# EAGLE library part 74*155 (library 74xx-eu)
Dual 2-line to 4-line data DECODER/DEMULTIPLEXER
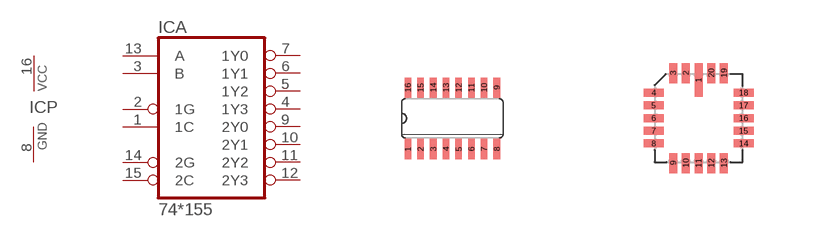
[diagram p105: symbol with the pads of SO16; footprints SO16, LCC20]

Designator prefix IC; gates A=74155 P=PWRN

## 74155D, 74HC155D, 74LS155D  [SO16]
1  A:1C  in
2  A:1G  in
3  A:B  in
4  A:1Y3  out
5  A:1Y2  out
6  A:1Y1  out
7  A:1Y0  out
8  P:GND  pwr
9  A:2Y0  out
10  A:2Y1  out
11  A:2Y2  out
12  A:2Y3  out
13  A:A  in
14  A:2G  in
15  A:2C  in
16  P:VCC  pwr

## 74155FK, 74HC155FK, 74LS155FK  [LCC20]
2  A:1C  in
3  A:1G  in
4  A:B  in
5  A:1Y3  out
7  A:1Y2  out
8  A:1Y1  out
9  A:1Y0  out
10  P:GND  pwr
12  A:2Y0  out
13  A:2Y1  out
14  A:2Y2  out
15  A:2Y3  out
17  A:A  in
18  A:2G  in
19  A:2C  in
20  P:VCC  pwr

## 74155N, 74HC155N, 74LS155N  [DIL16]
Pads as for SO16

## Footprint SO16 (pad centres in mm)
Small Outline package 150 mil
smd 0.165 x 0.508: 1 -1.111,-0.768; 2 -0.794,-0.768; 3 -0.476,-0.768; 4 -0.159,-0.768; 5 0.159,-0.768; 6 0.476,-0.768; 7 0.794,-0.768; 8 1.111,-0.768; 9 1.111,0.768; 10 0.794,0.768; 11 0.476,0.768; 12 0.159,0.768; 13 -0.159,0.768; 14 -0.476,0.768; 15 -0.794,0.768; 16 -1.111,0.768

## Footprint LCC20 (pad centres in mm)
Leadless Chip Carrier Ceramic Package
smd 0.2 x 0.85: 1 0,0.95
smd 0.2 x 0.5: 2 -0.318,1.125; 3 -0.635,1.125; 9 -0.635,-1.125; 10 -0.318,-1.125; 11 0,-1.125; 12 0.318,-1.125; 13 0.635,-1.125; 19 0.635,1.125; 20 0.318,1.125
smd 0.5 x 0.2: 4 -1.125,0.635; 5 -1.125,0.318; 6 -1.125,0; 7 -1.125,-0.318; 8 -1.125,-0.635; 14 1.125,-0.635; 15 1.125,-0.318; 16 1.125,0; 17 1.125,0.318; 18 1.125,0.635

## Footprint DIL16 (pad centres in mm)
Dual In Line Package
drill 0.203 long: 1 -2.223,-0.953; 2 -1.587,-0.953; 3 -0.953,-0.953; 4 -0.318,-0.953; 5 0.318,-0.953; 6 0.953,-0.953; 7 1.587,-0.953; 8 2.223,-0.953; 9 2.223,0.953; 10 1.587,0.953; 11 0.953,0.953; 12 0.318,0.953; 13 -0.318,0.953; 14 -0.953,0.953; 15 -1.587,0.953; 16 -2.223,0.953